# Altium schematic symbol library d1_SchLib.SchLib: 409 symbols (part 4 of 4)
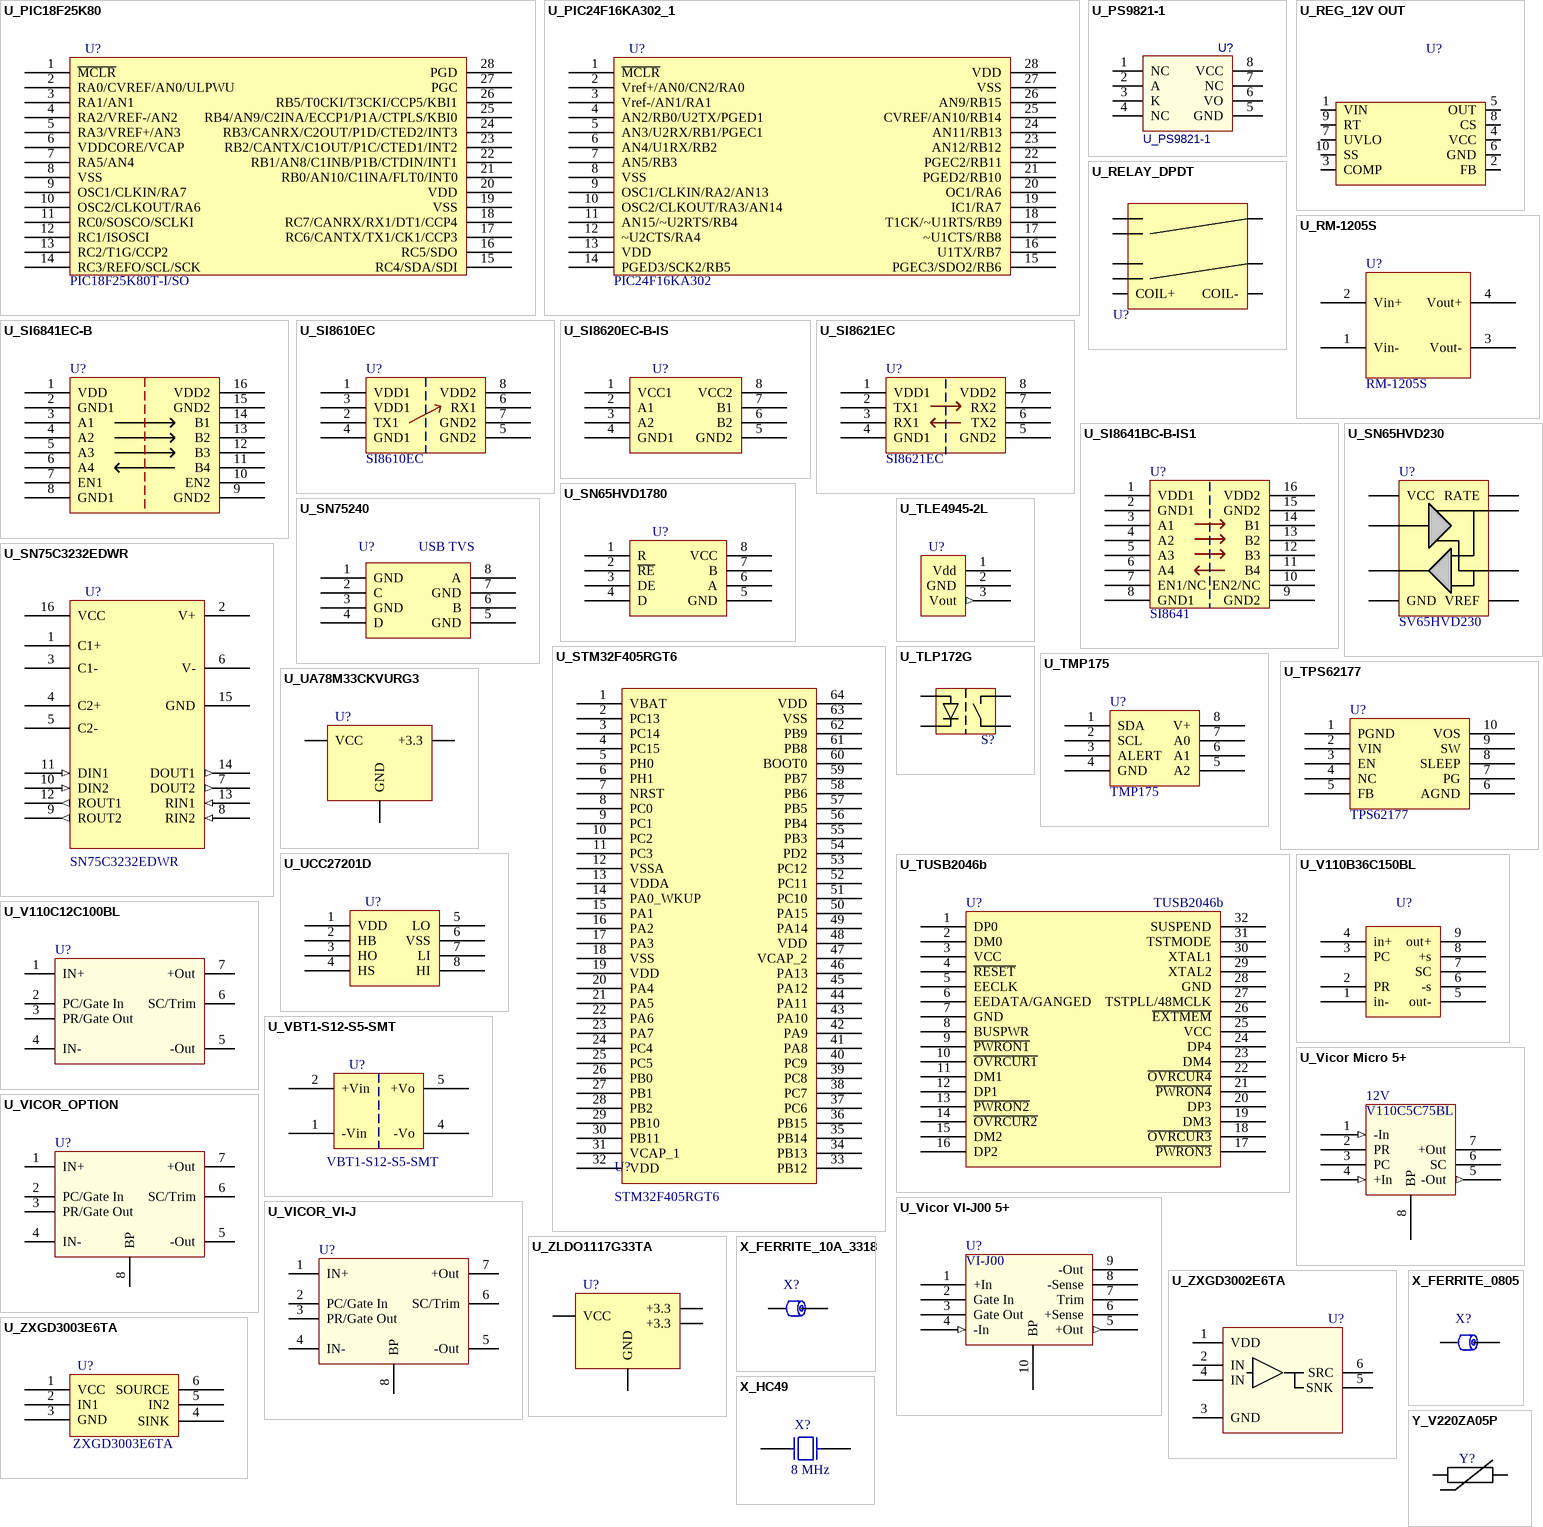
[diagram p14: symbols U_PIC18F25K80 to Y_V220ZA05P]

## U_RELAY_DPDT
designator U?, comment RELAY_DPDT_12V  (value not drawn)
RELAY GEN PURPOSE DPDT 8A 12V; Manufacturer: TE Connectivity; Manufacturer PN: RT424012F; SVP Creator: Matt Rogge; Package: custom; Known Distributors: digikey; ComponentLink1Description: datasheet; ComponentLink1URL: http://search.digikey.com/us/en/products/RT424012F/PB968-ND/1095292; Price: 2.33
footprint OMI-SH-212D,594
pins: 1 1NC, 2 1NO, 3 2NC, 4 2NO, 5 1OUT, 6 2OUT, 7 COIL+, 8 COIL-

## U_RM-1205S
designator U?  Manufacturer PN: RM-1205S  (hidden comment: *)
CONV DC/DC 0.25W SGL 5V OUT SIP4; Manufacturer: Recom Power Inc
footprint SIP4
pins: 1 Vin-, 2 Vin+, 3 Vout-, 4 Vout+

## U_SI6841EC-B
designator U?  (value not drawn)
IC ISOLATOR 4CH 3.75V 16-SOIC; Manufacturer: Silicon Labs; Manufacturer PN: SI8641EC-B-IS1
footprint SOIC16_SI8641 (SOIC, 16-Leads, Body 9.9x3.9mm (max), Pitch 1.27mm, IPC Medium Density)
pins: 1 VDD, 2 GND1, 3 A1, 4 A2, 5 A3, 6 A4, 7 EN1, 8 GND1, 9 GND2, 10 EN2, 11 B4, 12 B3, 13 B2, 14 B1, 15 GND2, 16 VDD2

## U_SI8610EC
designator U?  value SI8610EC
IC ISOLATOR 1CH 3.75KV 8-SOIC; Manufacturer: Silicon Labs; Manufacturer PN: SI8610EC-B-IS; SVP Creator: Jonathan Nutzmann; Package: SOIC-8; Known Distributors: DigiKey; ComponentLink1Description: Datasheet
footprint SOIC127P600X175-8N (SOIC, 8-Leads, Body 4.9x3.9mm (max), Pitch 1.27mm, IPC Medium Density)
pins: 1 VDD1, 2 TX1, 3 VDD1, 4 GND1, 5 GND2, 6 RX1, 7 GND2, 8 VDD2

## U_SI8620EC-B-IS
designator U?, comment Lights board current sensor  (value not drawn)
IC ISOLATOR 2CH 3.75KV 8SOIC; Manufacturer: Silicon Laboratories Inc.; Manufacturer PN: SI8620EC-B-IS; SVP Creator: Shawn Reimann; Package: 8-SOIC; Known Distributors: Digikey; ComponentLink1Description: Datasheet; ComponentLink1URL: http://www.silabs.com/products/power/isolators/Pages/Si86xx-Digital-Isolators.aspx; Price: 1.99
footprint Si86
pins: 1 VCC1, 2 A1, 3 A2, 4 GND1, 5 GND2, 6 B2, 7 B1, 8 VCC2

## U_SI8621EC
designator U?  value SI8621EC
IC ISOLATOR 2CH 3.75KV 8SOIC; Manufacturer: Silicon Labs; Manufacturer PN: SI8621EC-B-IS; SVP Creator: Jonathan Nutzmann; Package: SOIC-8; Known Distributors: DigiKey; ComponentLink1Description: Datasheet
footprint SOIC127P600X175-8N (SOIC, 8-Leads, Body 4.9x3.9mm (max), Pitch 1.27mm, IPC Medium Density)
pins: 1 VDD1, 2 TX1, 3 RX1, 4 GND1, 5 GND2, 6 TX2, 7 RX2, 8 VDD2

## U_SI8641BC-B-IS1
designator U?  value SI8641
IC ISOLATOR 4CH 3.75V 16-SOIC; Manufacturer: Silicon Labs; Manufacturer PN: SI8641BC-B-IS1; SVP Creator: Katie Moenkhaus; Package: SOIC-16; Known Distributors: DigiKey; ComponentLink1Description: Datasheet
footprint SOIC127P600X175-16N (SOIC, 16-Leads, Body 10.0x4.0mm (max), Pitch 1.27mm, IPC Medium Density)
pins: 1 VDD1, 2 GND1, 3 A1, 4 A2, 5 A3, 6 A4, 7 EN1/NC, 8 GND1, 9 GND2, 10 EN2/NC, 11 B4, 12 B3, 13 B2, 14 B1, 15 GND2, 16 VDD2

## U_SN65HVD230
designator U?  value SV65HVD230
CAN Transciever; Manufacturer: Texas Insturments; SVP Creator: Jonathan Nutzmann; Package: SOIC-8; Known Distributors: DigiKey; Manufacturer PN: SV65HVD230; HelpURL: http://umnsvp.dyndns.org/svn/centaurus2/datasheets/Common Board/sn65hvd251.pdf; ComponentLink1URL: http://umnsvp.dyndns.org/svn/centaurus2/datasheets/Common Board/sn65hvd251.pdf; ComponentLink1Description: Datasheet
footprint SOIC127P600-8N (SOIC, 8-Leads, Body 4.9x3.9mm, Pitch 1.27mm, IPC Medium Density)
pins: 1 TXD, 2 GND (power), 3 VCC (power), 4 RXD, 5 VREF, 6 CANL, 7 CANH, 8 RATE

## U_SN65HVD1780
designator U?
IC RS-485 TRANSCIEVER; Manufacturer: TI; Manufacturer PN: SN65HVD1780; SVP Creator: Peter Thompson; Circuit used in: D1 BP Control; Package: SOIC-8; ComponentLink: http://www.ti.com/product/sn65hvd1780
footprint SOIC8
pins: 1 R, 2 ~{RE}, 3 DE, 4 D, 5 GND, 6 A, 7 B, 8 VCC

## U_SN75C3232EDWR
designator U?  value SN75C3232EDWR  (hidden comment: U_SN75C3232EDWR)
IC LINE DRVR/RCVR RS232 16-SOIC; Manufacturer: TI; Manufacturer PN: TRS3232EIDR; SVP Creator: Jonathan Nutzmann; Known Distributors: Digikey; ComponentLink1Description: Datasheet
footprint SOIC127P600X175-16N (SOIC, 16-Leads, Body 10.0x4.0mm (max), Pitch 1.27mm, IPC Medium Density)
pins: 1 C1+, 2 V+, 3 C1-, 4 C2+, 5 C2-, 6 V-, 7 DOUT2 (out), 8 RIN2 (in), 9 ROUT2 (out), 10 DIN2 (in), 11 DIN1 (in), 12 ROUT1 (out), 13 RIN1 (in), 14 DOUT1 (out), 15 GND, 16 VCC

## U_SN75240
designator U?, comment USB TVS
IC DUAL USB PORT TVS 8-TSSOP; SVP Creator: Arlo Siemsen; Datasheet: http://www.ti.com/lit/ds/symlink/sn75240.pdf
footprint TSOP65P640X120-8N (TSOP, 8-Leads, Body 3.1x4.5mm (max), Pitch 0.65mm, IPC Medium Density)
pins: 1 GND, 2 C, 3 GND, 4 D, 5 GND, 6 B, 7 GND, 8 A

## U_STM32F405RGT6
designator U?, comment STM32F405RGT6
IC MCU 32BIT 1MB FLASH 64LQFP; Manufacturer: STMicroelectronics; Part Number: STM32F405RGT6
footprint TSQFP50P1200X1200X160-64M (TSQFP, 64-Leads, Body 12.0x12.0mm (max), Pitch 0.50mm, IPC Low Density)
pins: 1 VBAT, 2 PC13, 3 PC14, 4 PC15, 5 PH0, 6 PH1, 7 NRST, 8 PC0, 9 PC1, 10 PC2, 11 PC3, 12 VSSA, 13 VDDA, 14 PA0_WKUP, 15 PA1, 16 PA2, 17 PA3, 18 VSS, 19 VDD, 20 PA4, 21 PA5, 22 PA6, 23 PA7, 24 PC4, 25 PC5, 26 PB0, 27 PB1, 28 PB2, 29 PB10, 30 PB11, 31 VCAP_1, 32 VDD, 33 PB12, 34 PB13, 35 PB14, 36 PB15, 37 PC6, 38 PC7, 39 PC8, 40 PC9, 41 PA8, 42 PA9, 43 PA10, 44 PA11, 45 PA12, 46 PA13, 47 VCAP_2, 48 VDD, 49 PA14, 50 PA15, 51 PC10, 52 PC11, 53 PC12, 54 PD2, 55 PB3, 56 PB4, 57 PB5, 58 PB6, 59 PB7, 60 BOOT0, 61 PB8, 62 PB9, 63 VSS, 64 VDD

## U_TLE4945-2L
designator U?, comment Hall Sensor  (value not drawn)
IC SWITCH BIPOLAR SSO-3-2; Manufacturer: Infineon; Manufacturer PN: TLE4945-2L; SVP Creator: Chad Furey; Package: 3-SIP, SSO-3-02; Known Distributors: Digikey; ComponentLink1Description: http://www.infineon.com/dgdl/Data_Sheet_TLE49x5L_V1_2.pdf?folderId=db3a304412b407950112b408e8c90004&fileId=db3a304412b407950112b4090265005b; ComponentLink1URL: SVN Datasheet URL; HelpURL: http://search.digikey.com/scripts/DkSearch/dksus.dll?Detail&name=TLE4945-2LINCT-ND; Price: 1.5
footprint Hall Sensor S3 (3 pin Hall sensor pad for mounting off PCB edge)
footprint Hall_Board bent (Uber Motor Halls with bent tips)
pins: 1 Vdd (power) "2.4v - 5.5v", 2 GND (power), 3 Vout (out) "100mV output"

## U_TLP172G
designator S?, comment TLP172G  (value not drawn)
PHOTOCPLR RELAY MOSFET-OUT 4-SOP; Manufacturer: Toshiba; Package: 4-SOP; Known Distributors: Digikey; Manufacturer PN: TLP172G; ComponentLink1Description: Datasheet
footprint TLP172G (SOP, 4-Leads, Body 4.2x4.7mm (max), Pitch 2.54mm, IPC Medium Density)
pins: 1, 2, 3, 4

## U_TMP175
designator U?  Manufacturer PN: TMP175  (hidden comment: U_TMP175)
I2C Temperature Sensor SOIC-8; Manufacturer: Texas Insturments; SVP Creator: Jonathan Nutzmann; Package: SOIC-8; HelpURL: http://umnsvp.dyndns.org/svn/centaurus2/datasheets/; ComponentLink1URL: http://umnsvp.dyndns.org/svn/centaurus2/datasheets/; ComponentLink1Description: Datasheet
footprint SOIC127P600X175-8N (TMP175) (SOIC, 8-Leads, Body 5.0x4.0mm (max), Pitch 1.27mm, IPC Medium Density)
pins: 1 SDA, 2 SCL, 3 ALERT, 4 GND, 5 A2, 6 A1, 7 A0, 8 V+

## U_TPS62177
designator U?  value TPS62177
IC DC STEPDOWN CONVERTER; Manufacturer: Texas Instruments; SVP Creator: Peter Thompson; Package: 10-pin WSON; Manufacturer PN: TPS62177; ComponentLink1URL: http://www.ti.com/product/tps62177; ComponentLink1Description: Datasheet
pins: 1 PGND, 2 VIN, 3 EN, 4 NC, 5 FB, 6 AGND, 7 PG, 8 SLEEP, 9 SW, 10 VOS

## U_TUSB2046b
designator U?, comment TUSB2046b
IC 4-PORT USB HUB 32-LQFP; SVP Creator: Arlo Siemsen; Datasheet: http://www.ti.com/lit/ds/symlink/tusb2046b.pdf
footprint TQFP80P900X900X145-32N (TQFP, 32-Leads, Body 9.2x9.2mm (max), Pitch 0.80mm, IPC Medium Density)
pins: 1 DP0, 2 DM0, 3 VCC, 4 ~{RESET}, 5 EECLK, 6 EEDATA/GANGED, 7 GND, 8 BUSPWR, 9 ~{PWRON1}, 10 ~{OVRCUR1}, 11 DM1, 12 DP1, 13 ~{PWRON2}, 14 ~{OVRCUR2}, 15 DM2, 16 DP2, 17 ~{PWRON3}, 18 ~{OVRCUR3}, 19 DM3, 20 DP3, 21 ~{PWRON4}, 22 ~{OVRCUR4}, 23 DM4, 24 DP4, 25 VCC, 26 ~{EXTMEM}, 27 TSTPLL/48MCLK, 28 GND, 29 XTAL2, 30 XTAL1, 31 TSTMODE, 32 SUSPEND

## U_UA78M33CKVURG3
designator U?, comment UA78M33CKVURG3  (value not drawn)
IC POS VOLT REG FX 3.3V TO-252; Manufacturer: TI; SVP Creator: Brett Paulsen; Known Distributors: Digikey; Manufacturer PN: UA78M33CKVURG3; ComponentLink1Description: Datasheet; ComponentLink1URL: SVN Datasheet URL; Price: 0.72
footprint DPAK - JN
pins: 1 VCC, 2 GND, 3 +3.3

## U_UCC27201D
designator U?, comment Lights Gate Driver  (value not drawn)
IC DVR HIGH/LOW SIDE 3A 8-SOIC; Manufacturer: Texas Instruments; Manufacturer PN: 296-21435-5-ND; SVP Creator: Thomas Daede; Package: 8-SOIC; Known Distributors: Digikey; ComponentLink1Description: Datasheet; ComponentLink1URL: SVN Datasheet URL; HelpURL: http://focus.ti.com/lit/ds/symlink/ucc27200.pdf; Price: 4.26
footprint SOIC127P600X175-8N (TMP175) (SOIC, 8-Leads, Body 5.0x4.0mm (max), Pitch 1.27mm, IPC Medium Density)
pins: 1 VDD, 2 HB, 3 HO, 4 HS, 5 LO, 6 VSS, 7 LI, 8 HI

## U_V110B36C150BL
designator U?  (value not drawn)
Vicor 110V to 36 V Mini Family; SVP Creator: Evan Sundry; Known Distributors: Vicor; Manufacturer: Vicor; Manufacturer PN: V110B36C150BL; HelpURL: http://umnsvp.dyndns.org/svn/centaurus2/datasheets/Lights/; ComponentLink1URL: http://umnsvp.dyndns.org/svn/centaurus2/datasheets/Lights/; ComponentLink1Description: Datasheet
footprint VI-J00 (VI-J00 110 to 5)
pins: 1 in-, 2 PR, 3 PC, 4 in+, 5 out-, 6 -s, 7 SC, 8 +s, 9 out+

## U_V110C12C100BL
designator U?, comment V110C12C100BL  (value not drawn)
Vicor Micro 110 to 12V; SVP Creator: Jonathan Nutzmann; Package: MODULE; Known Distributors: Vicor; Manufacturer: Vicor; Manufacturer PN: http://cdn.vicorpower.com/documents/datasheets/ds_110vin-micro-family.pdf; ComponentLink1URL: http://cdn.vicorpower.com/documents/datasheets/ds_110vin-micro-family.pdf; ComponentLink1Description: Datasheet
footprint Vicor_Micro
pins: 1 IN+, 2 PC/Gate In "Primary control", 3 PR/Gate Out, 4 IN-, 5 -Out, 6 SC/Trim, 7 +Out

## U_VBT1-S12-S5-SMT
designator U?  Manufacturer PN: VBT1-S12-S5-SMT
CONVERTER DC/DC 5V OUT 1W; Manufacturer: CUI Inc; SVP Creator: Katie Moenkhaus; Package: 8-SMD; Known Distributors: Digikey; ComponentLink1Description: Datasheet; ComponentLink1URL: SVN Datasheet URL; Price: 5.54
footprint VBT1-SMT (SOP, 8-Leads, Body 12.7x7.5mm (max), Pitch 2.54mm, IPC Medium Density)
pins: 1 -Vin, 2 +Vin, 4 -Vo, 5 +Vo

## U_Vicor Micro 5+
designator 12V
110V to 5V converter; Manufacturer: Vicor; Manufacturer PN: V110C5C75BL; SVP Creator: Danny Retzlaff; Known Distributors: Vicor; HelpURL: http://cdn.vicorpower.com/documents/applications_manual/fas_trak_apps_manual.pdf; ComponentLink1URL: http://cdn.vicorpower.com/documents/datasheets/ds_110vin-micro-family.pdf; ComponentLink1Description: Datasheet
footprint V110C5C75BL
pins: 1 -In (in), 2 PR "Primary control", 3 PC, 4 +In (in), 5 -Out (out), 6 SC, 7 +Out, 8 BP "Baseplate"

## U_Vicor VI-J00 5+
designator U?
110V to 5V converter VI-J00 series; Manufacturer: Vicor; SVP Creator: Danny Retzlaff; Known Distributors: Vicor; HelpURL: http://cdn.vicorpower.com/documents/applications_manual/DesignGuideAppsManual_200J00.pdf; ComponentLink1URL: http://cdn.vicorpower.com/documents/datasheets/ds_vi-j00.pdf; ComponentLink1Description: Datasheet
footprint VI-J00 (VI-J00 110 to 5)
pins: 1 +In, 2 Gate In "Primary control", 3 Gate Out, 4 -In (in), 5 +Out (out), 6 +Sense, 7 Trim, 8 -Sense, 9 -Out, 10 BP "Baseplate"
text: VI-J00

## U_VICOR_OPTION
designator U?
Vicor Mini, Micro, or VI-J; SVP Creator: Nate Bolyard; Known Distributors: Vicor; Manufacturer: Vicor; HelpURL: http://cdn.vicorpower.com/documents/applications_manual/fas_trak_apps_manual.pdf; ComponentLink1URL: http://cdn.vicorpower.com/documents/datasheets/ds_110vin-micro-family.pdf; ComponentLink1Description: Datasheet
footprint Vicor_choice
pins: 1 IN+, 2 PC/Gate In "Primary control", 3 PR/Gate Out, 4 IN-, 5 -Out, 6 SC/Trim, 7 +Out, 8 BP "Baseplate"

## U_VICOR_VI-J
designator U?
VI-J; Manufacturer: Vicor; SVP Creator: Brett Paulsen; Known Distributors: Vicor; HelpURL: http://cdn.vicorpower.com/documents/applications_manual/fas_trak_apps_manual.pdf; ComponentLink1URL: http://cdn.vicorpower.com/documents/datasheets/ds_110vin-micro-family.pdf; ComponentLink1Description: Datasheet
footprint VICOR_VI-Jxx
pins: 1 IN+, 2 PC/Gate In "Primary control", 3 PR/Gate Out, 4 IN-, 5 -Out, 6 SC/Trim, 7 +Out, 8 BP "Baseplate"

## U_ZLDO1117G33TA
designator U?, comment ZLDO1117G33TA  (value not drawn)
IC REG LDO 1A 3.3V SOT223-3; Manufacturer: Diodes Inc; SVP Creator: Jonathan Nutzmann; Known Distributors: Digikey; Manufacturer PN: ZLDO1117G33TA; ComponentLink1Description: Datasheet; ComponentLink1URL: SVN Datasheet URL; Price: 0.61
footprint SOT223-3 (SOT223, 4-Leads, Body 6.7x7.3mm (max), Pitch 2.30mm, IPC Medium Density)
pins: 1 GND, 2 +3.3, 3 VCC, 4 +3.3

## U_ZXGD3002E6TA
designator U?, comment ZXGD3002E6TA  (value not drawn)
IC GATE DRVR IGBT/MOSFET SOT23-6; Manufacturer: Diodes; SVP Creator: Jonathan Nutzmann; Package: SOT-23-6; Known Distributors: Digikey; Manufacturer PN: ZXGD3002E6TA; Price: .88; ComponentLink1Description: Datasheet
footprint ZXGD3002E6TA (SOT23, 6-Leads, Body 3.1x3.2mm (max), Pitch 0.95mm, IPC Medium Density)
pins: 1 VDD, 2 IN, 3 GND, 4 IN, 5 SNK, 6 SRC

## U_ZXGD3003E6TA
designator U?, comment ZXGD3003E6TA
IC GATE DRVR IGBT/MOSFET SOT23-6; Manufacturer: Diodes/Zetex; SVP Creator: Jonathan Nutzmann; Package: SOIC-8; Manufacturer PN: ZXGD3003E6TA; ComponentLink1Description: Datasheet; ComponentLink1URL: http://www.diodes.com/datasheets/ZXGD3003E6.pdf; Price: 0.59
footprint SOT23-6
pins: 1 VCC, 2 IN1, 3 GND, 4 SINK, 5 IN2, 6 SOURCE

## X_FERRITE_10A_3318
designator X?, comment Ferrite Bead  (value not drawn)
FERRITE 10A 115 OHMS SMD; Manufacturer: Laird-Signal Integrity Products; Manufacturer PN: 28F0181-1SR-10; Package: 3318; Known Distributors: Digikey; Current Rating: 10A
footprint 28F0181-1SR-10
pins: 1, 2

## X_FERRITE_0805
designator X?, comment Ferrite Bead  (value not drawn)
FERRITE CHIP BEAD 600 OHM SMD; Manufacturer: TDK Corp; Manufacturer PN: MPZ2012S601A; SVP Creator: Brett Paulsen; Current Rating: 2A; Package: 0805; Known Distributors: Digikey
footprint 0805 (0805 Resistor/Capacitor)
pins: 1, 2

## X_HC49
designator X?, comment value 8 MHz  (hidden comment: HC49)
CRYSTAL 8.00 MHZ 20PF 49US; Manufacturer: ECS; Manufacturer PN: ECS-80-20-4X; SVP Creator: Jonathan Nutzmann; Load Capacitance: 20pF; Known Distributor: Digikey; Package: HC49/US; ComponentLink1Description: Datasheet
footprint HC-49
pins: 1, 2

## Y_V220ZA05P
designator Y?  (value not drawn)
VARISTOR 220V 6J 5MM RADIAL ZA; Manufacturer: LittleFuse; SVP Creator: Jonathan Nutzmann; Manufacturer PN: V220ZA05P; Known Distributor: Digikey; ComponentLink1Description: Datasheet; ComponentLink1URL: http://www.littelfuse.com/data/en/Data_Sheets/Littelfuse_MOV_ZA.pdf
footprint V220ZA05P
pins: 1, 2